# EAGLE library part 10142048-22 (library 10142048-22)
HTU31 Relative Humidity + Temp Sensor Source: Datasheet <https://www.te.com/commerce/DocumentDelivery/DDEController?Action=showdoc&DocId=Data SheetHTU31_RHT_SENSOR_IC4pdfEnglishENG_DS_HTU31_RHT_SENSOR_IC_4.pdf10142048-22>
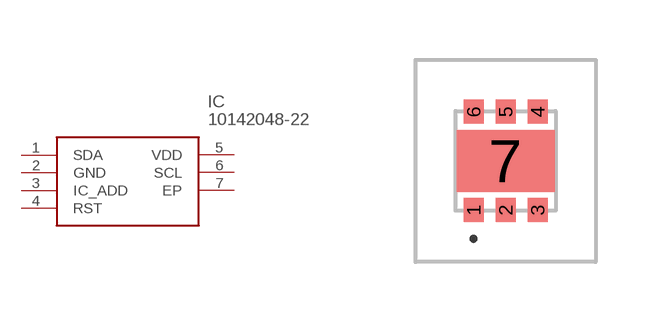
[diagram p0: symbol with the pads of 1014204822; footprint 1014204822]

Designator prefix IC

## 10142048-22 (Description: HTU31 Relative Humidity + Temp Sensor; Height: 1mm; Manufacturer_Name: TE Connectivity; Manufacturer_Part_Number: 10142048-22; Mouser_Part_Number: 824-10142048-22; Mouser_Price-Stock: https://www.mouser.co.uk/ProductDetail/Measurement-Specialties/10142048-22?qs=pBJMDPsKWf27qHZ1nGsrJA%3D%3D)  [1014204822]
1  SDA
2  GND
3  IC_ADD
4  RST
5  VDD
6  SCL
7  EP

## Footprint 1014204822 (pad centres in mm)
10142048-22-2
smd 0.5 x 0.6: 1 -0.8,-1.23; 2 0,-1.23; 3 0.8,-1.23; 4 0.8,1.23; 5 0,1.23; 6 -0.8,1.23
smd 2.45 x 1.55: 7 0,0